# Altium integrated library Xilinx Spartan.IntLib: 39 symbols (part 4 of 4)
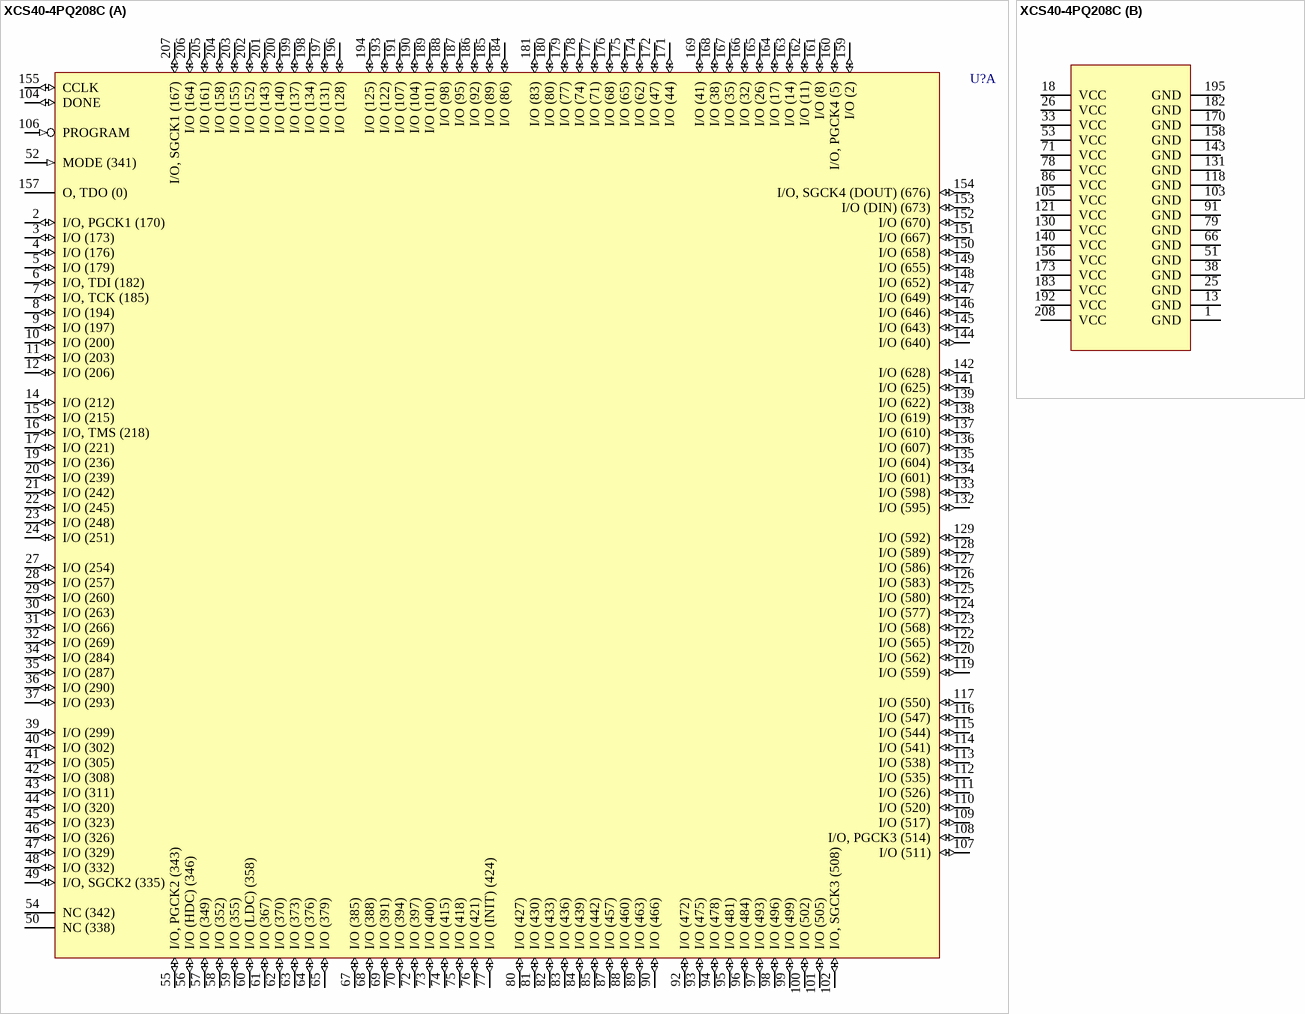
[diagram p29: symbol XCS40-4PQ208C]

## XCS40-4PQ208C
designator U?
Spartan FPGA, 208-Pin PQFP, Commercial Grade; Published: 13-Jul-2001; LatestRevisionDate: 13-Apr-2006; LatestRevisionNote: IPC-7351 Footprint Added.; DatasheetVersion: Jun-2002; PackageVersion: ver1.2, Jun-2004; PackageReference: PQ208; Publisher: Altium Limited; PackageDescription: 208-Pin Plastic Quad Flat Pack (PQ208); Code_JEDEC: MS-029-FA-1; ComponentLink1Description: Manufacturer Link; ComponentLink1URL: http://www.xilinx.com/xlnx/xil_prodcat_landingpage.jsp?title=Spartan; ComponentLink2Description: Datasheet; ComponentLink2URL: http://www.xilinx.com/bvdocs/publications/ds060.pdf
footprint PQ208_N (Shrink QFP, 208-Leads, Body 28x28mm, Pitch 0.5mm, IPC Medium Density)
footprint PQ208_L (Shrink QFP, 208-Leads, Body 28x28mm, Pitch 0.5mm, IPC High Density)
footprint PQ208_M (Shrink QFP, 208-Leads, Body 28x28mm, Pitch 0.5mm, IPC Low Density)
3D model XCS40-PQ208 (208-Pin Plastic Quad Flat Pack (PQ208))
part A pins: 2 I/O, PGCK1 (170) (io), 3 I/O (173) (io), 4 I/O (176) (io), 5 I/O (179) (io), 6 I/O, TDI (182) (io), 7 I/O, TCK (185) (io), 8 I/O (194) (io), 9 I/O (197) (io), 10 I/O (200) (io), 11 I/O (203) (io), 12 I/O (206) (io), 14 I/O (212) (io), 15 I/O (215) (io), 16 I/O, TMS (218) (io), 17 I/O (221) (io), 19 I/O (236) (io), 20 I/O (239) (io), 21 I/O (242) (io), 22 I/O (245) (io), 23 I/O (248) (io), 24 I/O (251) (io), 27 I/O (254) (io), 28 I/O (257) (io), 29 I/O (260) (io), 30 I/O (263) (io), 31 I/O (266) (io), 32 I/O (269) (io), 34 I/O (284) (io), 35 I/O (287) (io), 36 I/O (290) (io), 37 I/O (293) (io), 39 I/O (299) (io), 40 I/O (302) (io), 41 I/O (305) (io), 42 I/O (308) (io), 43 I/O (311) (io), 44 I/O (320) (io), 45 I/O (323) (io), 46 I/O (326) (io), 47 I/O (329) (io), 48 I/O (332) (io), 49 I/O, SGCK2 (335) (io), 50 NC (338), 52 MODE (341) (in), 54 NC (342), 55 I/O, PGCK2 (343) (io), 56 I/O (HDC) (346) (io), 57 I/O (349) (io), 58 I/O (352) (io), 59 I/O (355) (io), 60 I/O (LDC) (358) (io), 61 I/O (367) (io), 62 I/O (370) (io), 63 I/O (373) (io), 64 I/O (376) (io), 65 I/O (379) (io), 67 I/O (385) (io), 68 I/O (388) (io), 69 I/O (391) (io), 70 I/O (394) (io), 72 I/O (397) (io), 73 I/O (400) (io), 74 I/O (415) (io), 75 I/O (418) (io), 76 I/O (421) (io), 77 I/O (INIT) (424) (io), 80 I/O (427) (io), 81 I/O (430) (io), 82 I/O (433) (io), 83 I/O (436) (io), 84 I/O (439) (io), 85 I/O (442) (io), 87 I/O (457) (io), 88 I/O (460) (io), 89 I/O (463) (io), 90 I/O (466) (io), 92 I/O (472) (io), 93 I/O (475) (io), 94 I/O (478) (io), 95 I/O (481) (io), 96 I/O (484) (io), 97 I/O (493) (io), 98 I/O (496) (io), 99 I/O (499) (io), 100 I/O (502) (io), 101 I/O (505) (io), 102 I/O, SGCK3 (508) (io), 104 DONE (io), 106 PROGRAM (in), 107 I/O (511) (io), 108 I/O, PGCK3 (514) (io), 109 I/O (517) (io), 110 I/O (520) (io), 111 I/O (526) (io), 112 I/O (535) (io), 113 I/O (538) (io), 114 I/O (541) (io), 115 I/O (544) (io), 116 I/O (547) (io), 117 I/O (550) (io), 119 I/O (559) (io), 120 I/O (562) (io), 122 I/O (565) (io), 123 I/O (568) (io), 124 I/O (577) (io), 125 I/O (580) (io), 126 I/O (583) (io), 127 I/O (586) (io), 128 I/O (589) (io), 129 I/O (592) (io), 132 I/O (595) (io), 133 I/O (598) (io), 134 I/O (601) (io), 135 I/O (604) (io), 136 I/O (607) (io), 137 I/O (610) (io), 138 I/O (619) (io), 139 I/O (622) (io), 141 I/O (625) (io), 142 I/O (628) (io), 144 I/O (640) (io), 145 I/O (643) (io), 146 I/O (646) (io), 147 I/O (649) (io), 148 I/O (652) (io), 149 I/O (655) (io), 150 I/O (658) (io), 151 I/O (667) (io), 152 I/O (670) (io), 153 I/O (DIN) (673) (io), 154 I/O, SGCK4 (DOUT) (676) (io), 155 CCLK (io), 157 O, TDO (0) (hiz), 159 I/O (2) (io), 160 I/O, PGCK4 (5) (io), 161 I/O (8) (io), 162 I/O (11) (io), 163 I/O (14) (io), 164 I/O (17) (io), 165 I/O (26) (io), 166 I/O (32) (io), 167 I/O (35) (io), 168 I/O (38) (io), 169 I/O (41) (io), 171 I/O (44) (io), 172 I/O (47) (io), 174 I/O (62) (io), 175 I/O (65) (io), 176 I/O (68) (io), 177 I/O (71) (io), 178 I/O (74) (io), 179 I/O (77) (io), 180 I/O (80) (io), 181 I/O (83) (io), 184 I/O (86) (io), 185 I/O (89) (io), 186 I/O (92) (io), 187 I/O (95) (io), 188 I/O (98) (io), 189 I/O (101) (io), 190 I/O (104) (io), 191 I/O (107) (io), 193 I/O (122) (io), 194 I/O (125) (io), 196 I/O (128) (io), 197 I/O (131) (io), 198 I/O (134) (io), 199 I/O (137) (io), 200 I/O (140) (io), 201 I/O (143) (io), 202 I/O (152) (io), 203 I/O (155) (io), 204 I/O (158) (io), 205 I/O (161) (io), 206 I/O (164) (io), 207 I/O, SGCK1 (167) (io)
part B pins: 1 GND (power), 13 GND (power), 18 VCC (power), 25 GND (power), 26 VCC (power), 33 VCC (power), 38 GND (power), 51 GND (power), 53 VCC (power), 66 GND (power), 71 VCC (power), 78 VCC (power), 79 GND (power), 86 VCC (power), 91 GND (power), 103 GND (power), 105 VCC (power), 118 GND (power), 121 VCC (power), 130 VCC (power), 131 GND (power), 140 VCC (power), 143 GND (power), 156 VCC (power), 158 GND (power), 170 GND (power), 173 VCC (power), 182 GND (power), 183 VCC (power), 192 VCC (power), 195 GND (power), 208 VCC (power)

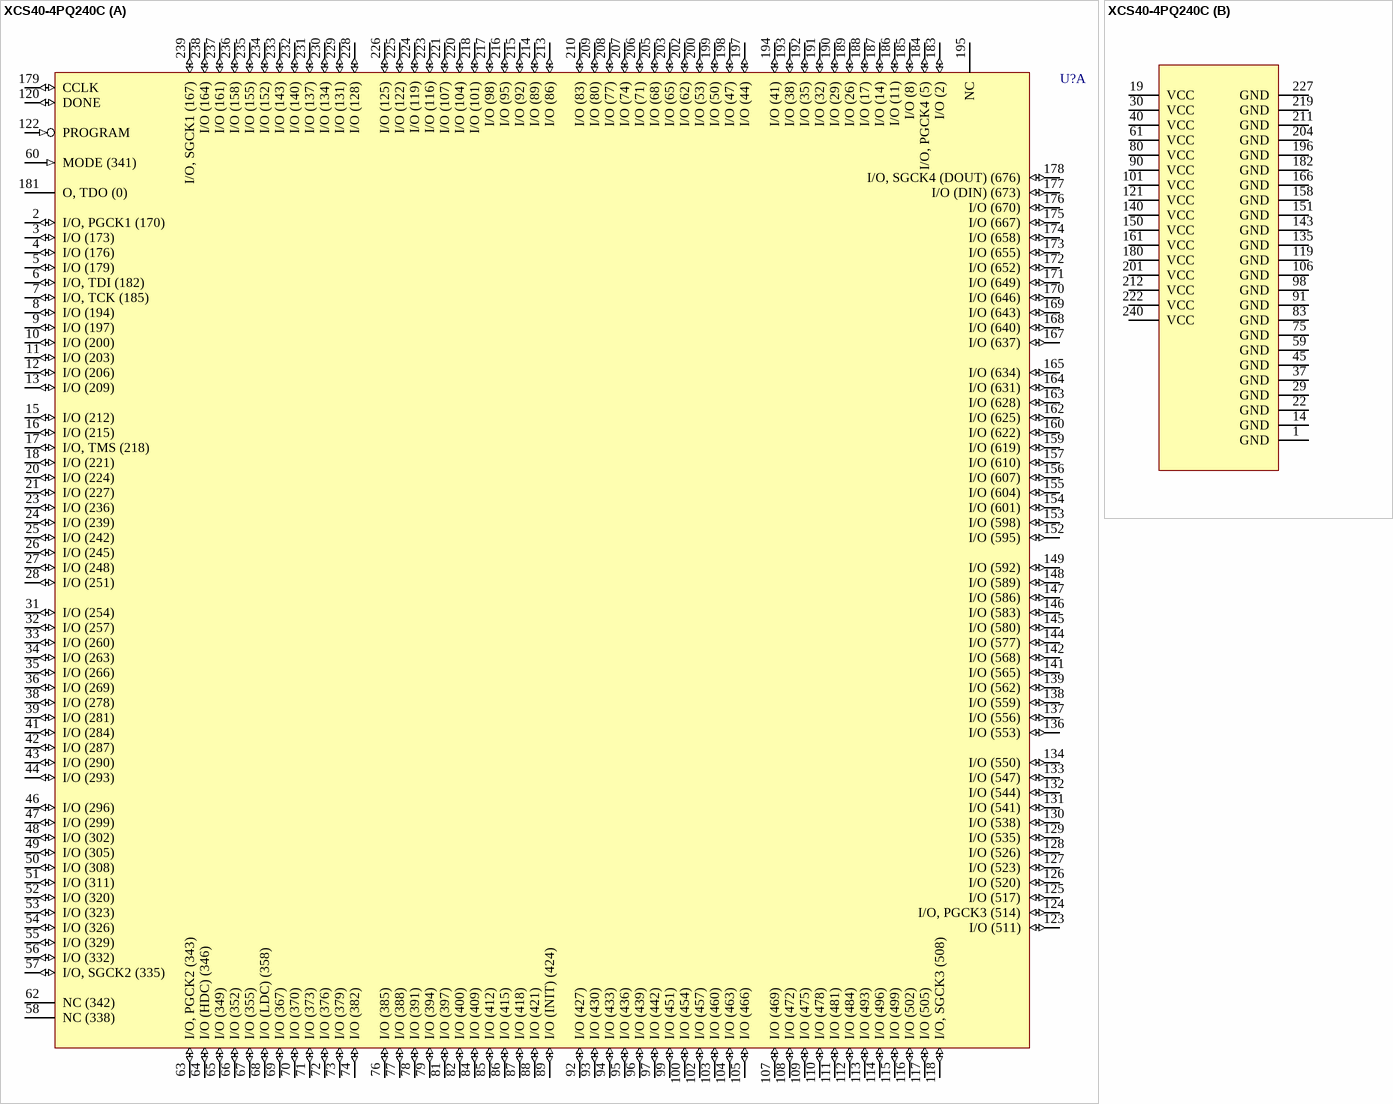
[diagram p26: symbol XCS40-4PQ240C]

## XCS40-4PQ240C
designator U?
Spartan FPGA, 240-Pin PQFP, Commercial Grade; Published: 13-Jul-2001; LatestRevisionDate: 13-Apr-2006; LatestRevisionNote: IPC-7351 Footprint Added.; DatasheetVersion: Jun-2002; PackageVersion: ver1.2, Jun-2004; PackageReference: PQ240; Publisher: Altium Limited; PackageDescription: 240-Pin Plastic Quad Flat Pack (PQ240); Code_JEDEC: MO-143-GA; ComponentLink1Description: Manufacturer Link; ComponentLink1URL: http://www.xilinx.com/xlnx/xil_prodcat_landingpage.jsp?title=Spartan; ComponentLink2Description: Datasheet; ComponentLink2URL: http://www.xilinx.com/bvdocs/publications/ds060.pdf
footprint PQ240_N (Shrink QFP, 240-Leads, Body 32x32mm, Pitch 0.5mm, IPC Medium Density)
footprint PQ240_L (Shrink QFP, 240-Leads, Body 32x32mm, Pitch 0.5mm, IPC High Density)
footprint PQ240_M (Shrink QFP, 240-Leads, Body 32x32mm, Pitch 0.5mm, IPC Low Density)
3D model XCS40-PQ240 (240-Pin Plastic Quad Flat Pack (PQ240))
part A pins: 2 I/O, PGCK1 (170) (io), 3 I/O (173) (io), 4 I/O (176) (io), 5 I/O (179) (io), 6 I/O, TDI (182) (io), 7 I/O, TCK (185) (io), 8 I/O (194) (io), 9 I/O (197) (io), 10 I/O (200) (io), 11 I/O (203) (io), 12 I/O (206) (io), 13 I/O (209) (io), 15 I/O (212) (io), 16 I/O (215) (io), 17 I/O, TMS (218) (io), 18 I/O (221) (io), 20 I/O (224) (io), 21 I/O (227) (io), 23 I/O (236) (io), 24 I/O (239) (io), 25 I/O (242) (io), 26 I/O (245) (io), 27 I/O (248) (io), 28 I/O (251) (io), 31 I/O (254) (io), 32 I/O (257) (io), 33 I/O (260) (io), 34 I/O (263) (io), 35 I/O (266) (io), 36 I/O (269) (io), 38 I/O (278) (io), 39 I/O (281) (io), 41 I/O (284) (io), 42 I/O (287) (io), 43 I/O (290) (io), 44 I/O (293) (io), 46 I/O (296) (io), 47 I/O (299) (io), 48 I/O (302) (io), 49 I/O (305) (io), 50 I/O (308) (io), 51 I/O (311) (io), 52 I/O (320) (io), 53 I/O (323) (io), 54 I/O (326) (io), 55 I/O (329) (io), 56 I/O (332) (io), 57 I/O, SGCK2 (335) (io), 58 NC (338), 60 MODE (341) (in), 62 NC (342), 63 I/O, PGCK2 (343) (io), 64 I/O (HDC) (346) (io), 65 I/O (349) (io), 66 I/O (352) (io), 67 I/O (355) (io), 68 I/O (LDC) (358) (io), 69 I/O (367) (io), 70 I/O (370) (io), 71 I/O (373) (io), 72 I/O (376) (io), 73 I/O (379) (io), 74 I/O (382) (io), 76 I/O (385) (io), 77 I/O (388) (io), 78 I/O (391) (io), 79 I/O (394) (io), 81 I/O (397) (io), 82 I/O (400) (io), 84 I/O (409) (io), 85 I/O (412) (io), 86 I/O (415) (io), 87 I/O (418) (io), 88 I/O (421) (io), 89 I/O (INIT) (424) (io), 92 I/O (427) (io), 93 I/O (430) (io), 94 I/O (433) (io), 95 I/O (436) (io), 96 I/O (439) (io), 97 I/O (442) (io), 99 I/O (451) (io), 100 I/O (454) (io), 102 I/O (457) (io), 103 I/O (460) (io), 104 I/O (463) (io), 105 I/O (466) (io), 107 I/O (469) (io), 108 I/O (472) (io), 109 I/O (475) (io), 110 I/O (478) (io), 111 I/O (481) (io), 112 I/O (484) (io), 113 I/O (493) (io), 114 I/O (496) (io), 115 I/O (499) (io), 116 I/O (502) (io), 117 I/O (505) (io), 118 I/O, SGCK3 (508) (io), 120 DONE (io), 122 PROGRAM (in), 123 I/O (511) (io), 124 I/O, PGCK3 (514) (io), 125 I/O (517) (io), 126 I/O (520) (io), 127 I/O (523) (io), 128 I/O (526) (io), 129 I/O (535) (io), 130 I/O (538) (io), 131 I/O (541) (io), 132 I/O (544) (io), 133 I/O (547) (io), 134 I/O (550) (io), 136 I/O (553) (io), 137 I/O (556) (io), 138 I/O (559) (io), 139 I/O (562) (io), 141 I/O (565) (io), 142 I/O (568) (io), 144 I/O (577) (io), 145 I/O (580) (io), 146 I/O (583) (io), 147 I/O (586) (io), 148 I/O (589) (io), 149 I/O (592) (io), 152 I/O (595) (io), 153 I/O (598) (io), 154 I/O (601) (io), 155 I/O (604) (io), 156 I/O (607) (io), 157 I/O (610) (io), 159 I/O (619) (io), 160 I/O (622) (io), 162 I/O (625) (io), 163 I/O (628) (io), 164 I/O (631) (io), 165 I/O (634) (io), 167 I/O (637) (io), 168 I/O (640) (io), 169 I/O (643) (io), 170 I/O (646) (io), 171 I/O (649) (io), 172 I/O (652) (io), 173 I/O (655) (io), 174 I/O (658) (io), 175 I/O (667) (io), 176 I/O (670) (io), 177 I/O (DIN) (673) (io), 178 I/O, SGCK4 (DOUT) (676) (io), 179 CCLK (io), 181 O, TDO (0) (hiz), 183 I/O (2) (io), 184 I/O, PGCK4 (5) (io), 185 I/O (8) (io), 186 I/O (11) (io), 187 I/O (14) (io), 188 I/O (17) (io), 189 I/O (26) (io), 190 I/O (29) (io), 191 I/O (32) (io), 192 I/O (35) (io), 193 I/O (38) (io), 194 I/O (41) (io), 195 NC, 197 I/O (44) (io), 198 I/O (47) (io), 199 I/O (50) (io), 200 I/O (53) (io), 202 I/O (62) (io), 203 I/O (65) (io), 205 I/O (68) (io), 206 I/O (71) (io), 207 I/O (74) (io), 208 I/O (77) (io), 209 I/O (80) (io), 210 I/O (83) (io), 213 I/O (86) (io), 214 I/O (89) (io), 215 I/O (92) (io), 216 I/O (95) (io), 217 I/O (98) (io), 218 I/O (101) (io), 220 I/O (104) (io), 221 I/O (107) (io), 223 I/O (116) (io), 224 I/O (119) (io), 225 I/O (122) (io), 226 I/O (125) (io), 228 I/O (128) (io), 229 I/O (131) (io), 230 I/O (134) (io), 231 I/O (137) (io), 232 I/O (140) (io), 233 I/O (143) (io), 234 I/O (152) (io), 235 I/O (155) (io), 236 I/O (158) (io), 237 I/O (161) (io), 238 I/O (164) (io), 239 I/O, SGCK1 (167) (io)
part B pins: 1 GND (power), 14 GND (power), 19 VCC (power), 22 GND (power), 29 GND (power), 30 VCC (power), 37 GND (power), 40 VCC (power), 45 GND (power), 59 GND (power), 61 VCC (power), 75 GND (power), 80 VCC (power), 83 GND (power), 90 VCC (power), 91 GND (power), 98 GND (power), 101 VCC (power), 106 GND (power), 119 GND (power), 121 VCC (power), 135 GND (power), 140 VCC (power), 143 GND (power), 150 VCC (power), 151 GND (power), 158 GND (power), 161 VCC (power), 166 GND (power), 180 VCC (power), 182 GND (power), 196 GND (power), 201 VCC (power), 204 GND (power), 211 GND (power), 212 VCC (power), 219 GND (power), 222 VCC (power), 227 GND (power), 240 VCC (power)